# Altium footprint library 7M-12.000MAAJ-T.PcbLib: 1 footprints
Each footprint in its own frame and in the unit in brackets; x right, y up, seen from the top. Pads: shape width x height; smd on the part's side, far side on the other; paste and mask are expansions set on the pad; w line width, h text height; cw(c..) or ccw(c..) is an arc to the next point about the centre after c.
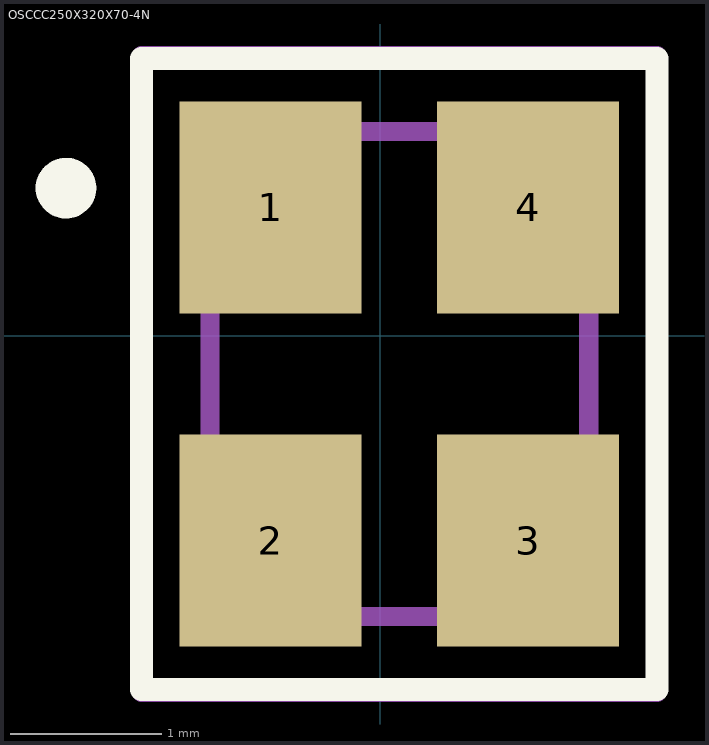
[diagram p0: the footprint, top view; thin cyan lines are the x and y axes]

## OSCCC250X320X70-4N [mm]
pads (4):
  rect 1.2x1.4 smd: 1(-0.723,0.846) 2(-0.723,-1.354) 3(0.977,-1.354) 4(0.977,0.846)
Top Overlay:
  circle w0.2: c-2.073,0.973 r0.1
  lines w0.152: -1.575,-2.337 1.829,-2.337 1.829,1.829 -1.575,1.829 -1.575,-2.337
Assembly Top:
  lines w0.127: -1.123,-1.854 1.377,-1.854 1.377,1.346 -1.123,1.346 -1.123,-1.854
Courtyard Top:
  lines w0.127: -1.573,-2.354 -1.573,1.846 1.827,1.846 1.827,-2.354 -1.573,-2.354
3D body "7M-12.000MAAJ-T--3DModel.STEP": height 0.8, standoff 0, extent -1.123,-1.854 1.377,1.346